# Altium schematic symbol library Pager.SchLib: 10 symbols
Pins are listed as number, name and electrical type; pins without a type are passive.

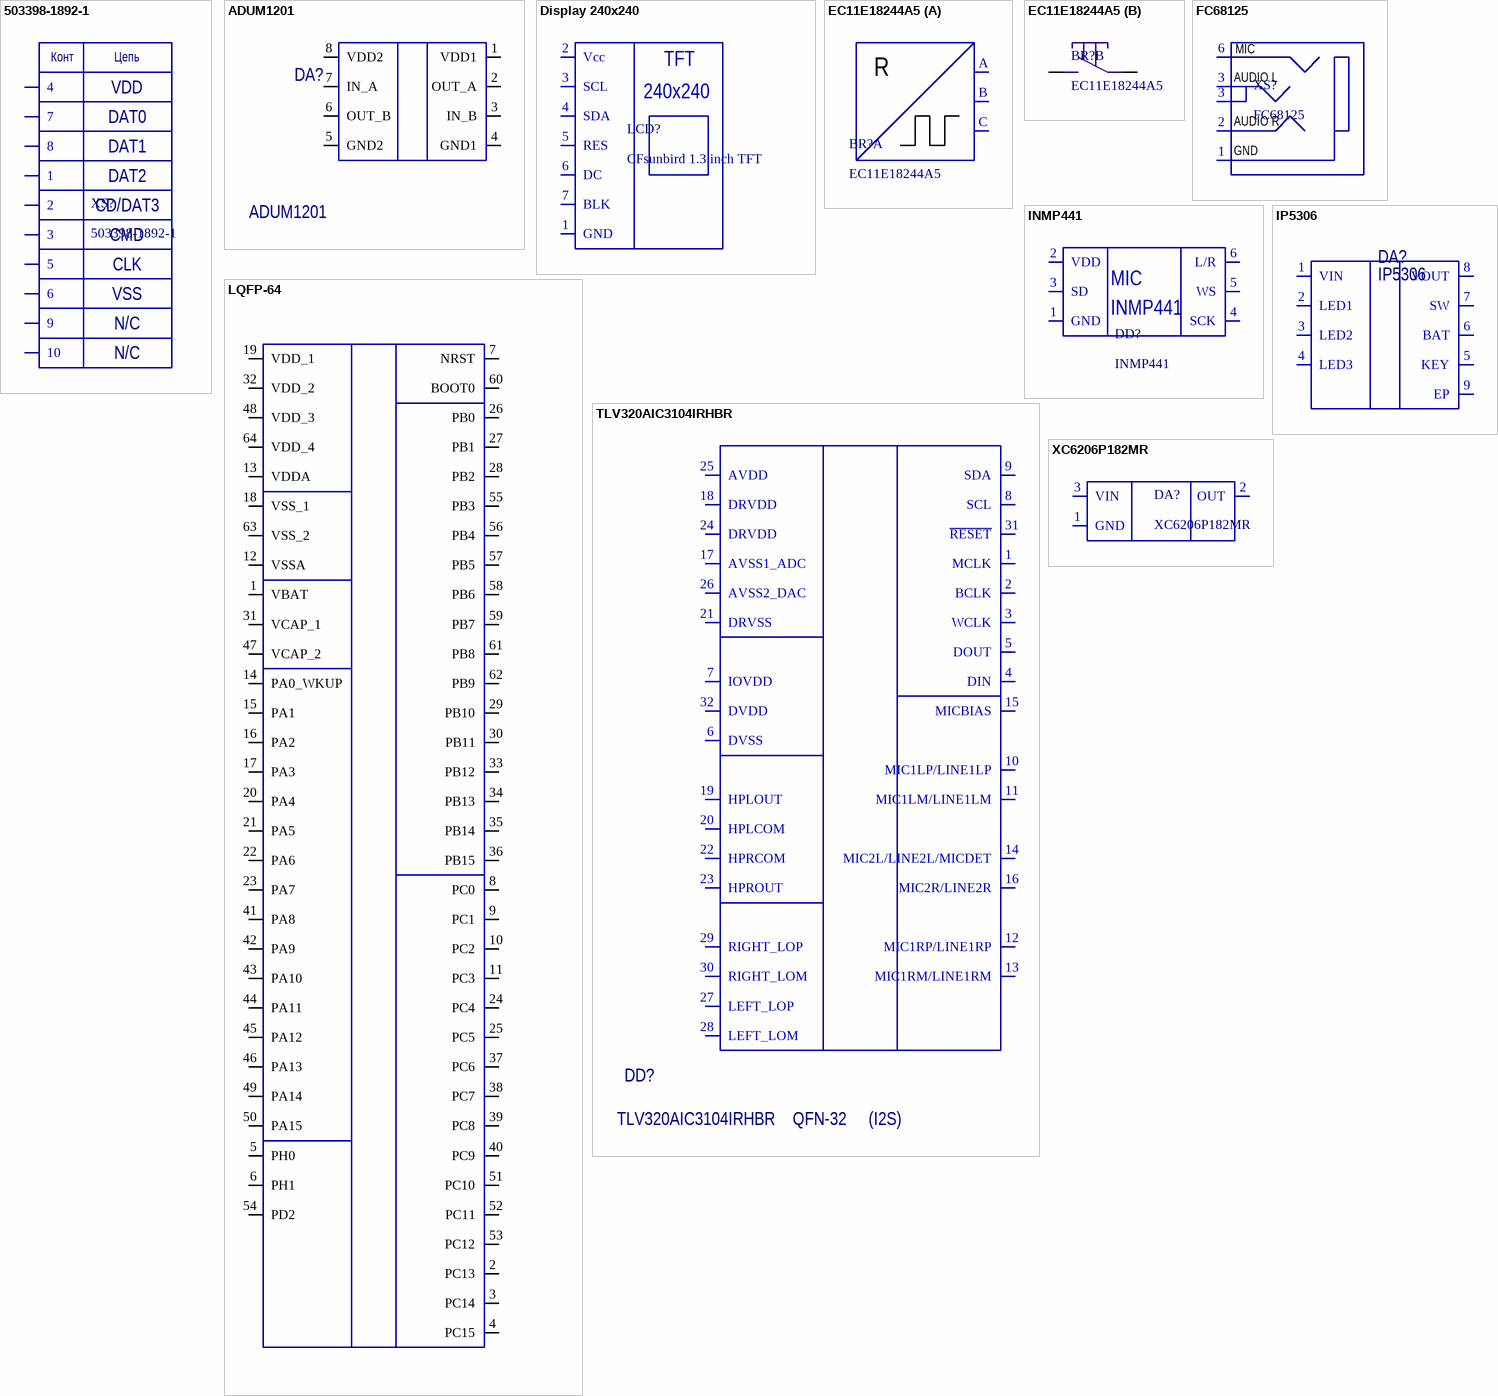
[diagram p0: symbols 503398-1892-1 to XC6206P182MR]

## 503398-1892-1
designator XS?
micro-sd card
footprint 503398-1892-1
pins: 1, 2, 3, 4, 5, 6, 7, 8, 9, 10
text: Конт; Цепь; VDD; DAT0; DAT1; DAT2; CD/DAT3; CMD; CLK; VSS; N/C

## ADUM1201
designator DA?
Двухканальная разнонаправленная (1/1) гальваноразвязка; PartNumber: ADUM1201ARZ
footprint HSOIC8
pins: 1 VDD1, 2 OUT_A, 3 IN_B, 4 GND1, 5 GND2, 6 OUT_B, 7 IN_A, 8 VDD2

## Display 240x240
designator LCD?, comment CFsunbird 1.3 inch TFT
https://aliexpress.ru/item/32858069771.html?sku_id=65356277922&spm=a2g2w.productlist.search_results.4.7a296866emIgOp
footprint OLED Display 240x240
pins: 1 GND , 2 Vcc, 3 SCL, 4 SDA, 5 RES, 6 DC, 7 BLK
text: TFT; 240x240

## EC11E18244A5
designator BR?
Encoders 11mm 18 RES 36 Mechanical Encoder Rotary Incremental Flat 10mN-m Straight Quadrature Digital Square Wave
footprint EC11E15244B2
part A pins: A, B, C
part B pins: D, E
part A text: R

## FC68125
designator XS?
Гнездо, Jack 3,5мм, "мама", stereo
footprint FC68125
pins: 1 GND, 2 AUDIO R, 3 AUDIO L, 3 AUDIO L, 6 MIC

## INMP441
designator DD?
Всенаправленный I2S микрофон
footprint INMP441 (Микрофон)
pins: 1 GND , 2 VDD, 3 SD, 4 SCK, 5 WS, 6 L/R
text: MIC

## IP5306
designator DA?
IP5306 is a multi-function power management SOC with an integrated boost converter, lithium battery charge management, and battery power indication, providing a complete power solution for mobile power supplies.
footprint HSOIC8
pins: 1 VIN, 2 LED1, 3 LED2, 4 LED3, 5 KEY, 6 BAT, 7 SW, 8 VOUT, 9 EP

## LQFP-64
designator DD?, comment STM32F405RGT6
Микроконтроллер 32-Бит, Cortex-M4 + FPU, 168МГц, 1МБ Flash, USB OTG HS/FS [LQFP-64.]
footprint LQFP-64
pins: 1 VBAT, 2 PC13, 3 PC14, 4 PC15, 5 PH0, 6 PH1, 7 NRST, 8 PC0, 9 PC1, 10 PC2, 11 PC3, 12 VSSA, 13 VDDA, 14 PA0_WKUP, 15 PA1, 16 PA2, 17 PA3, 18 VSS_1, 19 VDD_1, 20 PA4, 21 PA5, 22 PA6, 23 PA7, 24 PC4, 25 PC5, 26 PB0, 27 PB1, 28 PB2, 29 PB10, 30 PB11, 31 VCAP_1, 32 VDD_2, 33 PB12, 34 PB13, 35 PB14, 36 PB15, 37 PC6, 38 PC7, 39 PC8, 40 PC9, 41 PA8, 42 PA9, 43 PA10, 44 PA11, 45 PA12, 46 PA13, 47 VCAP_2, 48 VDD_3, 49 PA14, 50 PA15, 51 PC10, 52 PC11, 53 PC12, 54 PD2, 55 PB3, 56 PB4, 57 PB5, 58 PB6, 59 PB7, 60 BOOT0, 61 PB8, 62 PB9, 63 VSS_2, 64 VDD_4

## TLV320AIC3104IRHBR
designator DD?, comment TLV320AIC3104IRHBR    QFN-32     (I2S)
Стерео аудиокодек с программируемыми входами и выходами [VQFN-32 (5x5).]
footprint QFN-32 (QFN, 32-Leads, Body 5,00x5,00mm, Pitch 0,50mm, Thermal Pad 3,50x3,50mm, IPC Medium Density)
pins: 1 MCLK, 2 BCLK, 3 WCLK, 4 DIN, 5 DOUT, 6 DVSS, 7 IOVDD, 8 SCL, 9 SDA, 10 MIC1LP/LINE1LP, 11 MIC1LM/LINE1LM, 12 MIC1RP/LINE1RP, 13 MIC1RM/LINE1RM, 14 MIC2L/LINE2L/MICDET, 15 MICBIAS, 16 MIC2R/LINE2R, 17 AVSS1_ADC, 18 DRVDD, 19 HPLOUT, 20 HPLCOM, 21 DRVSS, 22 HPRCOM, 23 HPROUT, 24 DRVDD, 25 AVDD, 26 AVSS2_DAC, 27 LEFT_LOP, 28 LEFT_LOM, 29 RIGHT_LOP, 30 RIGHT_LOM, 31 ~{RESET}, 32 DVDD

## XC6206P182MR
designator DA?
LDO стабилизатор напряжения, +1.8В, 200мА [SOT-23-3]
footprint SOT23 (SOT23, 3-Leads, Body 2,90x2,45mm, Pitch 0,95mm, IPC Medium Density)
pins: 1 GND, 2 OUT, 3 VIN